# EAGLE library part FPC-30PIN-1V (library bontor)
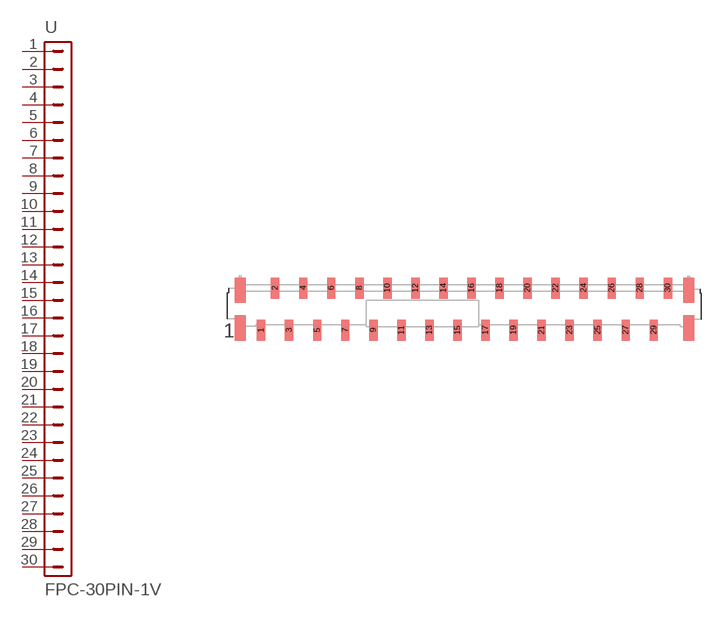
[diagram p9: symbol with the pads of FPC-30-1V; footprint FPC-30-1V]

Designator prefix -

## FPC-30PIN-1V  [FPC-30-1V]
1  1  pas
2  2  pas
3  3  pas
4  4  pas
5  5  pas
6  6  pas
7  7  pas
8  8  pas
9  9  pas
10  10  pas
11  11  pas
12  12  pas
13  13  pas
14  14  pas
15  15  pas
16  16  pas
17  17  pas
18  18  pas
19  19  pas
20  20  pas
21  21  pas
22  22  pas
23  23  pas
24  24  pas
25  25  pas
26  26  pas
27  27  pas
28  28  pas
29  29  pas
30  30  pas

## Footprint FPC-30-1V (pad centres in mm)
smd 0.6 x 1.5: 1 -10.23,-1.5; 2 -9.23,1.5; 3 -8.23,-1.5; 4 -7.23,1.5; 5 -6.23,-1.5; 6 -5.23,1.5; 7 -4.23,-1.5; 8 -3.23,1.5; 9 -2.23,-1.5; 10 -1.23,1.5; 11 -0.23,-1.5; 12 0.77,1.5; 13 1.77,-1.5; 14 2.77,1.5; 15 3.77,-1.5; 16 4.77,1.5; 17 5.77,-1.5; 18 6.77,1.5; 19 7.77,-1.5; 20 8.77,1.5; 21 9.77,-1.5; 22 10.77,1.5; 23 11.77,-1.5; 24 12.77,1.5; 25 13.77,-1.5; 26 14.77,1.5; 27 15.77,-1.5; 28 16.77,1.5; 29 17.77,-1.5; 30 18.77,1.5